# Altium footprint library zhao_PcbLib.PcbLib: 24 footprints (part 1 of 2)
Each footprint in its own frame and in the unit in brackets; x right, y up, seen from the top. Pads: shape width x height; smd on the part's side, far side on the other; paste and mask are expansions set on the pad; w line width, h text height; cw(c..) or ccw(c..) is an arc to the next point about the centre after c.
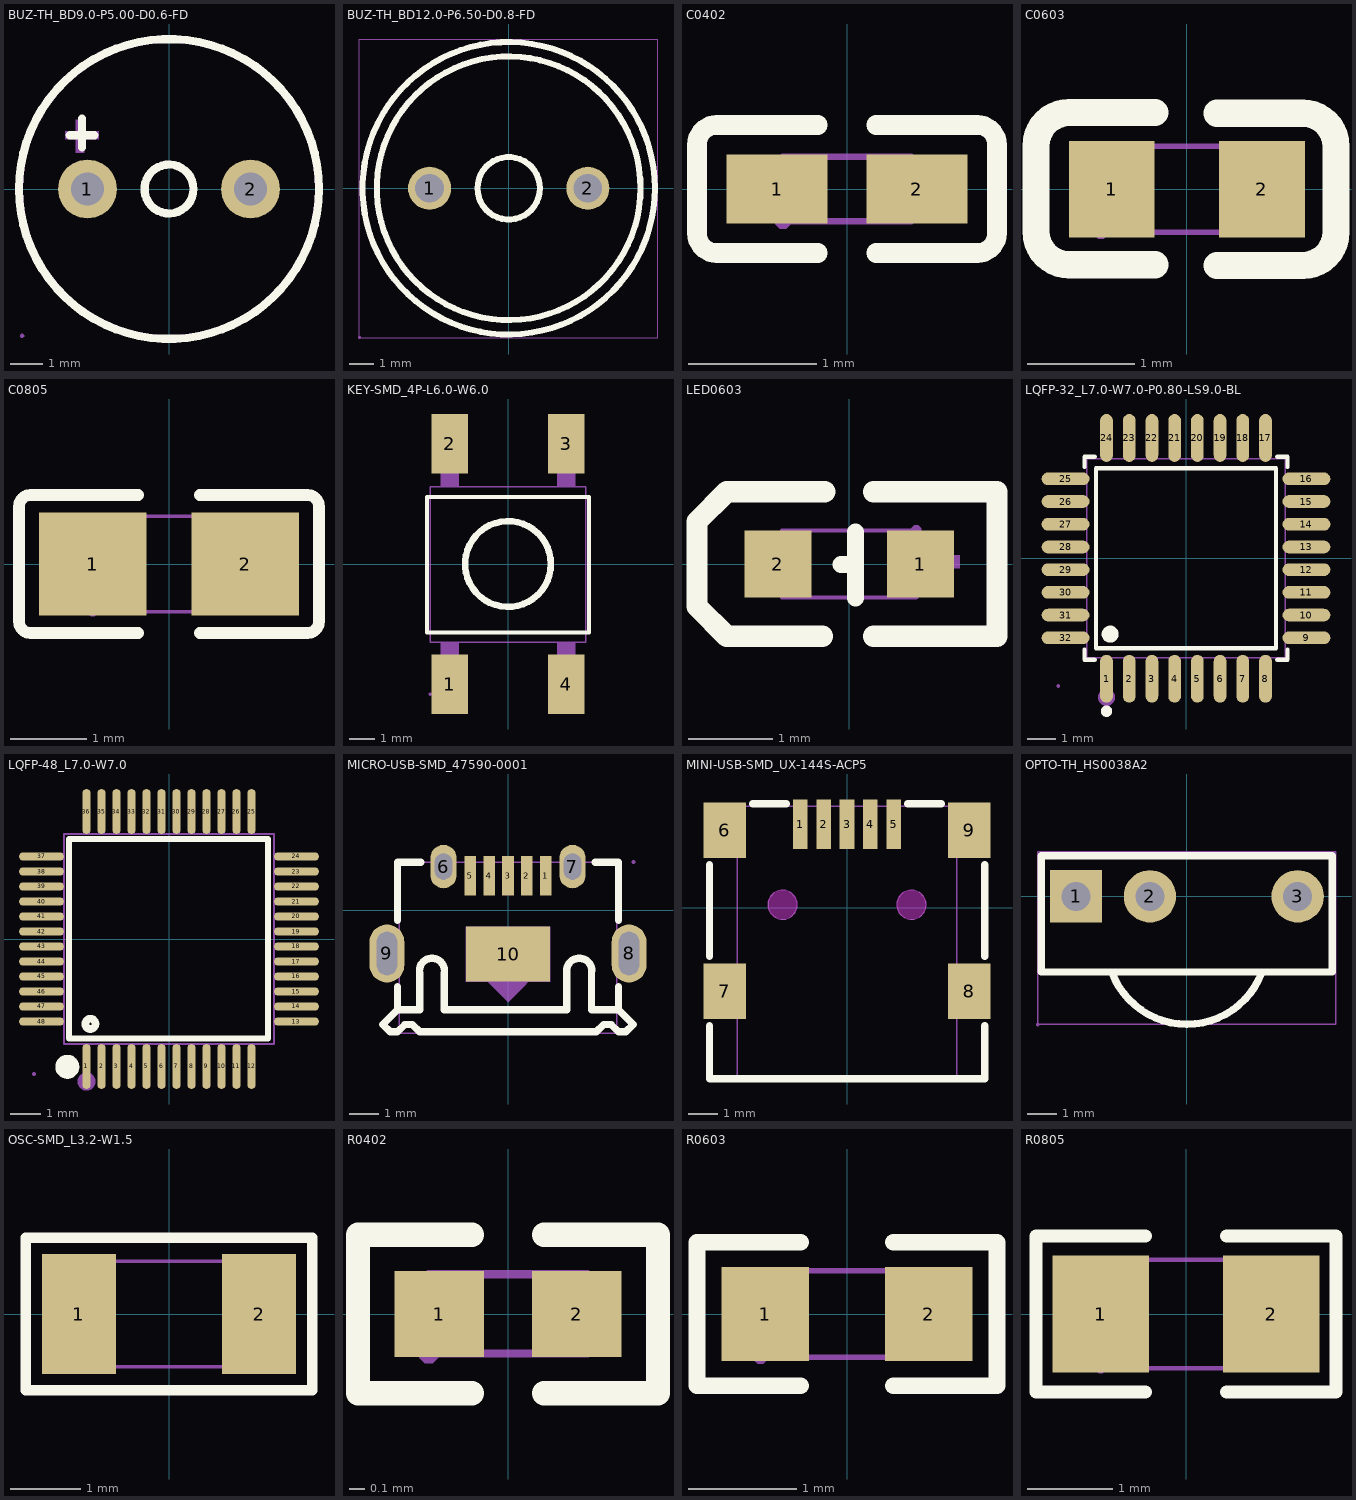
[diagram p0: the footprints below, top view; thin cyan lines are the x and y axes]

## BUZ-TH_BD9.0-P5.00-D0.6-FD [mm]
pads (2):
  round 1.8 hole 1 copper offset 0,0 paste+0 mask+0.051: 1(-2.5,0)
  round 1.8 hole 1 paste+0 mask+0.051: 2(2.5,0)
Top Overlay:
  circle w0.254: c0,0 r4.6
  circle w0.254: c0,0 r0.75
  lines w0.254: -3.048,1.651 -2.286,1.651 ; -2.667,1.27 -2.667,2.159
Mechanical 6:
  region: -3.048,1.524 -2.159,1.524 -2.159,1.778 -3.175,1.778 -3.175,1.524
  region: -2.599,1.235 -2.599,2.124 -2.853,2.124 -2.853,1.108 -2.599,1.108
Mechanical 15:
  region: -4.445,-4.505 -4.445,-4.48 -4.48,-4.445 -4.53,-4.445 -4.565,-4.48 -4.565,-4.505 -4.565,-4.53 -4.53,-4.565 -4.48,-4.565 -4.445,-4.53
  region: 2.8,0 2.8,0.06 2.754,0.17 2.67,0.254 2.56,0.3 2.44,0.3 2.33,0.254 2.246,0.17 2.2,0.06 2.2,0 2.2,-0.06 2.246,-0.17 2.33,-0.254 2.44,-0.3 2.56,-0.3 2.67,-0.254 2.754,-0.17 2.8,-0.06
  region: -2.2,0 -2.2,0.06 -2.246,0.17 -2.33,0.254 -2.44,0.3 -2.56,0.3 -2.67,0.254 -2.754,0.17 -2.8,0.06 -2.8,0 -2.8,-0.06 -2.754,-0.17 -2.67,-0.254 -2.56,-0.3 -2.44,-0.3 -2.33,-0.254 -2.246,-0.17 -2.2,-0.06
  lines w0.051: -4.505,0 cw(c0,0) 4.505,0 cw(c0,0) -4.505,0

## BUZ-TH_BD12.0-P6.50-D0.8-FD [mm]
pads (2):
  round 1.8 hole 1.2 paste+0 mask+0.051: 1(-3.3,0) 2(3.3,0)
Top Overlay:
  circle w0.254: c0,0 r1.303
  circle w0.254: c0,0 r5.5
  circle w0.254: c0,0 r6.1
Mechanical 15:
  region: -6.167,-6.227 -6.167,-6.202 -6.202,-6.167 -6.252,-6.167 -6.287,-6.202 -6.287,-6.227 -6.287,-6.252 -6.252,-6.287 -6.202,-6.287 -6.167,-6.252
  region: 3.8,0 3.8,0.099 3.724,0.283 3.583,0.424 3.399,0.5 3.201,0.5 3.017,0.424 2.876,0.283 2.8,0.099 2.8,0 2.8,-0.099 2.876,-0.283 3.017,-0.424 3.201,-0.5 3.399,-0.5 3.583,-0.424 3.724,-0.283 3.8,-0.099
  region: -2.8,0 -2.8,0.099 -2.876,0.283 -3.017,0.424 -3.201,0.5 -3.399,0.5 -3.583,0.424 -3.724,0.283 -3.8,0.099 -3.8,0 -3.8,-0.099 -3.724,-0.283 -3.583,-0.424 -3.399,-0.5 -3.201,-0.5 -3.017,-0.424 -2.876,-0.283 -2.8,-0.099
  lines w0.051: -6.227,-6.227 -6.227,6.227 6.227,6.227 6.227,-6.227 -6.227,-6.227

## C0402 [mm]
pads (2):
  rect 0.79x0.54 smd mask+0.051: 1(-0.545,0) 2(0.545,0)
Top Overlay:
  lines w0.152: -0.226,-0.499 -1.016,-0.499 cw(c-1.016,-0.346) -1.169,-0.346 -1.169,0.346 cw(c-1.016,0.346) -1.016,0.499 -0.226,0.499 ; 0.226,-0.499 1.016,-0.499 ccw(c1.016,-0.346) 1.169,-0.346 1.169,0.346 ccw(c1.016,0.346) 1.016,0.499 0.226,0.499
Top Paste:
  region: -0.18,0.225 -0.18,-0.225 -0.25,-0.275 -0.73,-0.275 -0.78,-0.225 -0.78,0.225 -0.73,0.275 -0.25,0.275
  region: 0.78,0.225 0.78,-0.225 0.73,-0.275 0.25,-0.275 0.18,-0.225 0.18,0.225 0.25,0.275 0.73,0.275
Mechanical 15:
  region: -0.44,-0.25 -0.44,-0.225 -0.475,-0.19 -0.525,-0.19 -0.56,-0.225 -0.56,-0.25 -0.56,-0.275 -0.525,-0.31 -0.475,-0.31 -0.44,-0.275
  region: -0.5,-0.25 -0.5,0.25 -0.25,0.25 -0.25,-0.25
  region: 0.5,-0.25 0.5,0.25 0.25,0.25 0.25,-0.25
  lines w0.051: -0.5,-0.25 -0.5,0.25 0.5,0.25 0.5,-0.25 -0.5,-0.25

## C0603 [mm]
pads (2):
  rect 0.8x0.9 smd mask+0.051: 1(-0.7,0) 2(0.7,0)
Top Overlay:
  lines w0.254: -0.296,-0.704 -1.096,-0.704 cw(c-1.096,-0.394) -1.406,-0.394 -1.405,0.406 cw(c-1.096,0.406) -1.096,0.715 -0.296,0.715 ; 0.28,-0.71 1.08,-0.71 ccw(c1.08,-0.4) 1.39,-0.4 1.39,0.4 ccw(c1.08,0.4) 1.08,0.71 0.28,0.71
Mechanical 15:
  region: 0.8,-0.4 0.8,0.4 0.5,0.4 0.5,-0.4
  region: -0.8,-0.4 -0.8,0.4 -0.5,0.4 -0.5,-0.4
  region: -0.74,-0.4 -0.74,-0.375 -0.775,-0.34 -0.825,-0.34 -0.86,-0.375 -0.86,-0.4 -0.86,-0.425 -0.825,-0.46 -0.775,-0.46 -0.74,-0.425
  lines w0.051: -0.8,-0.4 0.8,-0.4 0.8,0.4 -0.8,0.4 -0.8,-0.4

## C0805 [mm]
pads (2):
  rect 1.41x1.35 smd mask+0.051: 1(-1,0) 2(1,0)
Top Overlay:
  lines w0.152: -0.401,-0.904 -1.811,-0.904 cw(c-1.811,-0.751) -1.964,-0.751 -1.964,0.751 cw(c-1.811,0.751) -1.811,0.904 -0.401,0.904 ; 0.401,-0.904 1.811,-0.904 ccw(c1.811,-0.751) 1.964,-0.751 1.964,0.751 ccw(c1.811,0.751) 1.811,0.904 0.401,0.904
Top Paste:
  region: -1.675,-0.62 -1.675,0.66 -1.625,0.71 -0.475,0.71 -0.425,0.66 -0.42,0.25 -0.87,0.25 -0.87,-0.2 -0.43,-0.2 -0.425,-0.62 -0.475,-0.67 -1.625,-0.67
  region: 0.475,-0.62 0.475,-0.2 0.92,-0.2 0.92,0.25 0.48,0.25 0.475,0.66 0.525,0.71 1.675,0.71 1.725,0.66 1.725,-0.62 1.675,-0.67 0.525,-0.67
Mechanical 15:
  region: -0.94,-0.625 -0.94,-0.6 -0.975,-0.565 -1.025,-0.565 -1.06,-0.6 -1.06,-0.625 -1.06,-0.65 -1.025,-0.685 -0.975,-0.685 -0.94,-0.65
  region: -1,-0.625 -1,0.625 -0.5,0.625 -0.5,-0.625
  region: 1,0.625 1,-0.625 0.5,-0.625 0.5,0.625
  lines w0.051: -1,-0.625 -1,0.625 1,0.625 1,-0.625 -1,-0.625

## KEY-SMD_4P-L6.0-W6.0 [mm]
pads (4):
  rect 1.4x2.3 smd: 1(-2.25,-4.643) 2(-2.25,4.643) 3(2.25,4.643) 4(2.25,-4.643)
Top Overlay:
  circle w0.254: c0,0 r1.656
  lines w0.152: -3.126,-2.647 -3.126,2.596 3.126,2.596 3.126,-2.647 -3.126,-2.647
Mechanical 15:
  region: -2.94,-5.025 -2.94,-5.001 -2.975,-4.965 -3.025,-4.965 -3.06,-5.001 -3.06,-5.025 -3.06,-5.05 -3.025,-5.085 -2.975,-5.085 -2.94,-5.05
  region: 1.9,2.965 1.9,4.225 2.6,4.225 2.6,2.965
  region: 1.9,4.215 1.9,4.975 2.6,4.975 2.6,4.215
  region: -2.6,2.965 -2.6,4.225 -1.9,4.225 -1.9,2.965
  region: -2.6,4.215 -2.6,4.975 -1.9,4.975 -1.9,4.215
  region: 1.9,-4.275 1.9,-3.015 2.6,-3.015 2.6,-4.275
  region: 1.9,-5.025 1.9,-4.265 2.6,-4.265 2.6,-5.025
  region: -2.6,-4.275 -2.6,-3.015 -1.9,-3.015 -1.9,-4.275
  region: -2.6,-5.025 -2.6,-4.265 -1.9,-4.265 -1.9,-5.025
  lines w0.051: -3,-3.025 -3,2.975 3,2.975 3,-3.025 -3,-3.025

## LED0603 [mm]
pads (2):
  rect 0.8x0.8 smd paste+0 mask+0.051: 1(0.851,0) 2(-0.851,0)
Top Overlay:
  lines w0.203: -0.099,-0.008 0.076,-0.008 ; 0.076,-0.406 0.076,0.381
  lines w0.254: -0.318,-0.864 -1.46,-0.864 -1.816,-0.508 -1.816,0.508 -1.46,0.864 -0.292,0.864 ; 0.292,-0.864 1.765,-0.864 1.765,0.864 0.292,0.864
Mechanical 6:
  region: -1.193,0.05 -0.533,0.05 -0.533,-0.103 -1.193,-0.103
  region: 0.936,-0.275 0.936,0.385 1.088,0.385 1.088,-0.275
  region: 0.66,0.102 1.321,0.102 1.321,-0.051 0.66,-0.051
Mechanical 15:
  region: -0.8,-0.4 -0.8,0.4 -0.5,0.4 -0.5,-0.4
  region: 0.8,0.4 0.8,-0.4 0.5,-0.4 0.5,0.4
  region: 0.86,0.4 0.86,0.425 0.825,0.46 0.775,0.46 0.74,0.425 0.74,0.4 0.74,0.375 0.775,0.34 0.825,0.34 0.86,0.375
  lines w0.051: -0.8,-0.4 -0.8,0.4 0.8,0.4 0.8,-0.4 -0.8,-0.4

## LQFP-32_L7.0-W7.0-P0.80-LS9.0-BL [mm]
pads (32):
  oval 0.448x1.684 smd mask+0.051: 1(-2.8,-4.242) 2(-2,-4.242) 3(-1.2,-4.242) 4(-0.4,-4.242) 5(0.4,-4.242) 6(1.2,-4.242) 7(2,-4.242) 8(2.8,-4.242) 17(2.8,4.242) 18(2,4.242) 19(1.2,4.242) 20(0.4,4.242) 21(-0.4,4.242) 22(-1.2,4.242) 23(-2,4.242) 24(-2.8,4.242)
  oval 1.684x0.448 smd mask+0.051: 9(4.242,-2.8) 10(4.242,-2) 11(4.242,-1.2) 12(4.242,-0.4) 13(4.242,0.4) 14(4.242,1.2) 15(4.242,2) 16(4.242,2.8) 25(-4.242,2.8) 26(-4.242,2) 27(-4.242,1.2) 28(-4.242,0.4) 29(-4.242,-0.4) 30(-4.242,-1.2) 31(-4.242,-2) 32(-4.242,-2.8)
Top Overlay:
  circle w0.3: c-2.671,-2.671 r0.15
  circle w0.2: c-2.8,-5.384 r0.1
  lines w0.152: -3.576,-3.214 -3.576,-3.576 -3.214,-3.576 ; -3.576,3.214 -3.576,3.576 -3.214,3.576 ; 3.214,-3.576 3.576,-3.576 3.576,-3.214 ; 3.214,3.576 3.576,3.576 3.576,3.214 ; -3.171,-3.171 3.171,-3.171 3.171,3.171 -3.171,3.171 -3.171,-3.171
Mechanical 6:
  circle w0.3: c-2.8,-4.9 r0.15
Mechanical 15:
  drawing of 69 lines, arcs and shapes, not listed

## LQFP-48_L7.0-W7.0 [mm]
pads (48):
  oval 0.27x1.5 smd paste+0 mask+0.05: 1(-2.75,-4.25) 2(-2.25,-4.25) 3(-1.75,-4.25) 4(-1.25,-4.25) 5(-0.75,-4.25) 6(-0.25,-4.25) 7(0.25,-4.25) 8(0.75,-4.25) 9(1.25,-4.25) 10(1.75,-4.25) 11(2.25,-4.25) 12(2.75,-4.25) 25(2.75,4.25) 26(2.25,4.25) 27(1.75,4.25) 28(1.25,4.25) 29(0.75,4.25) 30(0.25,4.25) 31(-0.25,4.25) 32(-0.75,4.25) 33(-1.25,4.25) 34(-1.75,4.25) 35(-2.25,4.25) 36(-2.75,4.25)
  oval 1.5x0.27 smd paste+0 mask+0.05: 13(4.25,-2.75) 14(4.25,-2.25) 15(4.25,-1.75) 16(4.25,-1.25) 17(4.25,-0.75) 18(4.25,-0.25) 19(4.25,0.25) 20(4.25,0.75) 21(4.25,1.25) 22(4.25,1.75) 23(4.25,2.25) 24(4.25,2.75) 37(-4.25,2.75) 38(-4.25,2.25) 39(-4.25,1.75) 40(-4.25,1.25) 41(-4.25,0.75) 42(-4.25,0.25) 43(-4.25,-0.25) 44(-4.25,-0.75) 45(-4.25,-1.25) 46(-4.25,-1.75) 47(-4.25,-2.25) 48(-4.25,-2.75)
Top Overlay:
  circle w0.254: c-2.62,-2.83 r0.17
  lines w0.2: -2.896,3.34 3.302,3.34 3.302,-3.315 -3.327,-3.315 -3.327,3.34 -2.565,3.34
  lines w0.4: -3.39,-4.06 ccw(c-3.389,-4.26) -3.387,-4.06
Mechanical 6:
  circle w0.3: c-2.75,-4.75 r0.15
Mechanical 15:
  drawing of 101 lines, arcs and shapes, not listed

## MICRO-USB-SMD_47590-0001 [mm]
pads (10):
  rect 0.4x1.35 smd mask+0.05: 1(1.3,1.192) 2(0.65,1.192) 3(0,1.192) 4(-0.65,1.192) 5(-1.299,1.192)
  oval 0.9x1.5 hole 0.6 slot 0.9 at 90 deg mask+0.051: 6(-2.225,1.512) 7(2.225,1.512)
  oval 1.2x2 hole 0.7 slot 1.5 at 90 deg mask+0.051: 8(4.175,-1.488) 9(-4.175,-1.488)
  rect 2.9x1.9 smd mask+0.05: 10(0,-1.512)
Top Overlay:
  lines w0.254: -3.81,-2.634 -3.81,-3.211 -3.81,-3.428 ; -3.81,-0.341 -3.81,1.662 -3.006,1.662 ; -2.2,-2.158 -2.2,-3.428 2.032,-3.428 2.032,-2.158 cw(c2.457,-2.082) 2.882,-2.158 ; -2.198,-2.158 ccw(c-2.623,-2.082) -3.048,-2.158 -3.048,-3.428 -3.81,-3.428 ; 2.88,-2.158 2.88,-3.428 3.81,-3.428 ; 3.127,1.662 3.006,1.662 3.81,1.662 3.81,-0.341 ; 3.81,-2.634 3.81,-3.211 3.81,-3.428 ; -3.81,-3.428 -4.318,-3.936 -4.064,-4.19 -3.81,-4.19 -3.556,-3.936 -3.302,-3.936 -3.048,-4.19 3.048,-4.19 3.302,-3.936 3.556,-3.936 3.81,-4.19 4.064,-4.19 4.318,-3.936 3.81,-3.428
Top Paste:
  region: -4.775,-1.088 -4.775,-0.968 -4.684,-0.748 -4.515,-0.579 -4.294,-0.488 -4.056,-0.488 -3.835,-0.579 -3.666,-0.748 -3.575,-0.968 -3.575,-1.088 -3.575,-1.888 -3.575,-2.007 -3.666,-2.228 -3.835,-2.396 -4.056,-2.488 -4.294,-2.488 -4.515,-2.396 -4.684,-2.228 -4.775,-2.007 -4.775,-1.888
  region: 3.575,-1.088 3.575,-0.968 3.666,-0.748 3.835,-0.579 4.056,-0.488 4.294,-0.488 4.515,-0.579 4.684,-0.748 4.775,-0.968 4.775,-1.088 4.775,-1.888 4.775,-2.007 4.684,-2.228 4.515,-2.396 4.294,-2.488 4.056,-2.488 3.835,-2.396 3.666,-2.228 3.575,-2.007 3.575,-1.888
  region: -1.499,1.867 -1.099,1.867 -1.099,0.517 -1.499,0.517
  region: -0.85,1.867 -0.45,1.867 -0.45,0.517 -0.85,0.517
  region: -0.2,1.867 0.2,1.867 0.2,0.517 -0.2,0.517
  region: 0.45,1.867 0.85,1.867 0.85,0.517 0.45,0.517
  region: 1.1,1.867 1.5,1.867 1.5,0.517 1.1,0.517
  region: -1.45,-0.562 1.45,-0.562 1.45,-2.462 -1.45,-2.462
  region: -2.675,1.812 -2.675,1.901 -2.607,2.067 -2.48,2.193 -2.315,2.262 -2.136,2.262 -1.97,2.193 -1.844,2.067 -1.775,1.901 -1.775,1.812 -1.775,1.212 -1.775,1.122 -1.844,0.957 -1.97,0.83 -2.136,0.762 -2.315,0.762 -2.48,0.83 -2.607,0.957 -2.675,1.122 -2.675,1.212
  region: 1.775,1.812 1.775,1.901 1.844,2.067 1.97,2.193 2.136,2.262 2.315,2.262 2.48,2.193 2.607,2.067 2.675,1.901 2.675,1.812 2.675,1.212 2.675,1.122 2.607,0.957 2.48,0.83 2.315,0.762 2.136,0.762 1.97,0.83 1.844,0.957 1.775,1.122 1.775,1.212
Mechanical 6:
  region: -1.27,-1.893 1.27,-1.893 0,-3.163
Mechanical 15:
  region: 4.385,1.662 4.385,1.687 4.35,1.722 4.3,1.722 4.265,1.687 4.265,1.662 4.265,1.637 4.3,1.602 4.35,1.602 4.385,1.637
  region: 2,1.362 2,1.662 2.45,1.662 2.45,1.362
  region: -2.45,1.362 -2.45,1.662 -2,1.662 -2,1.362
  region: 4.025,-1.063 4.325,-1.063 4.325,-1.913 4.025,-1.913
  region: -4.325,-1.063 -4.025,-1.063 -4.025,-1.913 -4.325,-1.913
  region: 1.175,1.362 1.425,1.362 1.425,0.612 1.175,0.612
  region: 0.525,1.362 0.775,1.362 0.775,0.612 0.525,0.612
  region: -0.125,1.362 0.125,1.362 0.125,0.612 -0.125,0.612
  region: -0.775,1.362 -0.525,1.362 -0.525,0.612 -0.775,0.612
  region: -1.424,1.362 -1.174,1.362 -1.174,0.612 -1.424,0.612
  region: 4.03,-1.063 4.03,-1.913 3.74,-1.913 3.74,-1.063
  region: -4.03,-1.913 -4.03,-1.063 -3.74,-1.063 -3.74,-1.913
  region: -1.45,-0.562 1.45,-0.562 1.45,-2.462 -1.45,-2.462
  lines w0.051: -3.75,-4.238 -3.75,1.662 3.75,1.662 3.75,-4.238 -3.75,-4.238

## MINI-USB-SMD_UX-144S-ACP5 [mm]
pads (9):
  rect 0.5x1.7 smd: 1(-1.6,2.85) 2(-0.8,2.85) 3(0,2.85) 4(0.8,2.85) 5(1.6,2.85)
  rect 1.45x1.9 smd: 6(-4.175,2.65) 7(-4.175,-2.85) 8(4.175,-2.85) 9(4.175,2.65)
Top Overlay:
  lines w0.254: -4.699,-4.031 -4.699,-5.842 4.699,-5.842 4.699,-4.031 ; -4.699,-1.669 -4.699,1.469 ; -3.219,3.556 -2.081,3.556 ; 2.081,3.556 3.219,3.556 ; 4.699,-1.669 4.699,1.469
Keep-Out Layer:
  board cut-out: -1.7,0.1 -1.7,0.199 -1.776,0.383 -1.917,0.524 -2.1,0.6 -2.299,0.6 -2.483,0.524 -2.624,0.383 -2.7,0.199 -2.7,0.1 -2.7,0 -2.624,-0.183 -2.483,-0.324 -2.299,-0.4 -2.1,-0.4 -1.917,-0.324 -1.776,-0.183 -1.7,0
  board cut-out: 2.7,0.1 2.7,0.199 2.624,0.383 2.483,0.524 2.3,0.6 2.101,0.6 1.917,0.524 1.776,0.383 1.7,0.199 1.7,0.1 1.7,0 1.776,-0.183 1.917,-0.324 2.101,-0.4 2.3,-0.4 2.483,-0.324 2.624,-0.183 2.7,0
Mechanical 1:
  circle w0.005: c-2.2,0.1 r0.5
  circle w0.005: c2.2,0.1 r0.5
Mechanical 15:
  region: -4.615,3.46 -4.615,3.485 -4.65,3.52 -4.7,3.52 -4.735,3.485 -4.735,3.46 -4.735,3.435 -4.7,3.4 -4.65,3.4 -4.615,3.435
  region: 1.4,3.45 1.8,3.45 1.8,2.25 1.4,2.25
  region: 0.6,3.45 1,3.45 1,2.25 0.6,2.25
  region: -0.2,3.45 0.2,3.45 0.2,2.25 -0.2,2.25
  region: -1,3.45 -0.6,3.45 -0.6,2.25 -1,2.25
  region: -1.8,3.45 -1.4,3.45 -1.4,2.25 -1.8,2.25
  region: 3.675,-2.1 4.675,-2.1 4.675,-3.6 3.675,-3.6
  region: 3.675,3.4 4.675,3.4 4.675,1.9 3.675,1.9
  region: -4.675,3.4 -3.675,3.4 -3.675,1.9 -4.675,1.9
  region: -4.675,-2.1 -3.675,-2.1 -3.675,-3.6 -4.675,-3.6
  lines w0.051: -3.75,-5.74 -3.75,3.46 3.75,3.46 3.75,-5.74 -3.75,-5.74

## OPTO-TH_HS0038A2 [mm]
pads (3):
  rect 1.8x1.8 hole 1 paste+0 mask+0.051: 1(-3.81,0)
  round 1.8 hole 1 paste+0 mask+0.051: 2(-1.27,0) 3(3.81,0)
Top Overlay:
  lines w0.254: -2.581,-2.6 ccw(c0,-1.65) 2.581,-2.6 ; -5,-2.6 5,-2.6 5,1.4 -5,1.4 -5,-2.6
Mechanical 15:
  region: 4.21,0 4.21,0.079 4.149,0.226 4.037,0.339 3.89,0.4 3.73,0.4 3.583,0.339 3.471,0.226 3.41,0.079 3.41,0 3.41,-0.08 3.471,-0.227 3.583,-0.339 3.73,-0.4 3.89,-0.4 4.037,-0.339 4.149,-0.227 4.21,-0.08
  region: -0.87,0 -0.87,0.079 -0.931,0.226 -1.043,0.339 -1.19,0.4 -1.35,0.4 -1.497,0.339 -1.609,0.226 -1.67,0.079 -1.67,0 -1.67,-0.08 -1.609,-0.227 -1.497,-0.339 -1.35,-0.4 -1.19,-0.4 -1.043,-0.339 -0.931,-0.227 -0.87,-0.08
  region: -3.41,0 -3.41,0.079 -3.471,0.226 -3.583,0.339 -3.73,0.4 -3.89,0.4 -4.037,0.339 -4.149,0.226 -4.21,0.079 -4.21,0 -4.21,-0.08 -4.149,-0.227 -4.037,-0.339 -3.89,-0.4 -3.73,-0.4 -3.583,-0.339 -3.471,-0.227 -3.41,-0.08
  region: -5.067,-4.4 -5.067,-4.375 -5.102,-4.34 -5.152,-4.34 -5.187,-4.375 -5.187,-4.4 -5.187,-4.424 -5.152,-4.46 -5.102,-4.46 -5.067,-4.424
  lines w0.051: -5.127,-4.4 5.127,-4.4 5.127,1.527 -5.127,1.527 -5.127,-4.4

## OSC-SMD_L3.2-W1.5 [mm]
pads (2):
  rect 1.05x1.7 smd mask+0.051: 1(-1.275,0) 2(1.275,0)
Top Overlay:
  lines w0.152: -2.029,-1.079 -2.029,1.079 2.029,1.079 2.029,-1.079 -2.029,-1.079
Mechanical 15:
  region: -1.54,-0.75 -1.54,-0.725 -1.575,-0.69 -1.625,-0.69 -1.66,-0.725 -1.66,-0.75 -1.66,-0.775 -1.625,-0.81 -1.575,-0.81 -1.54,-0.775
  region: -0.85,-0.75 -0.85,0.75 -1.5,0.75 -1.5,-0.75
  region: 0.85,-0.75 0.85,0.75 1.5,0.75 1.5,-0.75
  lines w0.051: -1.6,-0.75 -1.6,0.75 1.6,0.75 1.6,-0.75 -1.6,-0.75

## R0402 [mm]
pads (2):
  rect 0.566x0.54 smd mask+0.051: 1(-0.433,0) 2(0.433,0)
Top Overlay:
  lines w0.152: -0.226,-0.499 -0.944,-0.499 -0.944,0.499 -0.226,0.499 ; 0.226,-0.499 0.944,-0.499 0.944,0.499 0.226,0.499
Top Paste:
  region: -0.135,-0.23 -0.135,0.23 -0.175,0.27 -0.676,0.27 -0.716,0.23 -0.716,-0.23 -0.676,-0.27 -0.175,-0.27
  region: 0.135,-0.23 0.135,0.23 0.175,0.27 0.676,0.27 0.716,0.23 0.716,-0.23 0.676,-0.27 0.175,-0.27
Mechanical 15:
  region: -0.249,0.25 -0.249,-0.25 -0.499,-0.25 -0.499,0.25
  region: 0.251,-0.25 0.251,0.25 0.501,0.25 0.501,-0.25
  region: -0.44,-0.25 -0.44,-0.225 -0.475,-0.19 -0.525,-0.19 -0.56,-0.225 -0.56,-0.25 -0.56,-0.275 -0.525,-0.31 -0.475,-0.31 -0.44,-0.275
  lines w0.051: -0.5,-0.25 0.5,-0.25 0.5,0.25 -0.5,0.25 -0.5,-0.25

## R0603 [mm]
pads (2):
  rect 0.806x0.864 smd mask+0.051: 1(-0.753,0) 2(0.753,0)
Top Overlay:
  lines w0.152: -0.426,-0.661 -1.385,-0.661 -1.385,0.661 -0.426,0.661 ; 0.426,-0.661 1.385,-0.661 1.385,0.661 0.426,0.661
Top Paste:
  region: -0.355,0.4 -0.355,0.172 -0.735,0.172 -0.735,-0.158 -0.355,-0.158 -0.355,-0.4 -0.405,-0.45 -1.195,-0.45 -1.245,-0.4 -1.245,0.4 -1.195,0.45 -0.405,0.45
  region: 1.195,0.45 0.395,0.45 0.345,0.4 0.345,0.172 0.715,0.172 0.715,-0.158 0.345,-0.158 0.345,-0.4 0.395,-0.45 1.195,-0.45 1.245,-0.4 1.245,0.4
Mechanical 15:
  region: 0.8,-0.4 0.8,0.4 0.5,0.4 0.5,-0.4
  region: -0.8,-0.4 -0.8,0.4 -0.5,0.4 -0.5,-0.4
  region: -0.74,-0.4 -0.74,-0.375 -0.775,-0.34 -0.825,-0.34 -0.86,-0.375 -0.86,-0.4 -0.86,-0.425 -0.825,-0.46 -0.775,-0.46 -0.74,-0.425
  lines w0.051: -0.8,-0.4 0.8,-0.4 0.8,0.4 -0.8,0.4 -0.8,-0.4

## R0805 [mm]
pads (2):
  rect 1.133x1.377 smd mask+0.051: 1(-1,0) 2(1,0)
Top Overlay:
  lines w0.152: -0.476,-0.917 -1.761,-0.917 -1.761,0.917 -0.476,0.917 ; 0.476,-0.917 1.761,-0.917 1.761,0.917 0.476,0.917
Top Paste:
  region: -1.7,-0.64 -1.7,0.64 -1.65,0.69 -0.5,0.69 -0.45,0.64 -0.445,0.23 -0.895,0.23 -0.895,-0.22 -0.455,-0.22 -0.45,-0.64 -0.5,-0.69 -1.65,-0.69
  region: 0.45,-0.64 0.45,-0.22 0.895,-0.22 0.895,0.23 0.455,0.23 0.45,0.64 0.5,0.69 1.65,0.69 1.7,0.64 1.7,-0.64 1.65,-0.69 0.5,-0.69
Mechanical 15:
  region: -0.94,-0.638 -0.94,-0.613 -0.975,-0.578 -1.025,-0.578 -1.06,-0.613 -1.06,-0.638 -1.06,-0.662 -1.025,-0.698 -0.975,-0.698 -0.94,-0.662
  region: -1,-0.637 -1,0.637 -0.6,0.637 -0.6,-0.637
  region: 1,-0.637 1,0.637 0.6,0.637 0.6,-0.637
  lines w0.051: -1,-0.637 -1,0.637 1,0.637 1,-0.637 -1,-0.637